# Altium integrated library ISSI SRAM Synchronous SRAM Automotive.IntLib: 614 symbols (part 25 of 71)
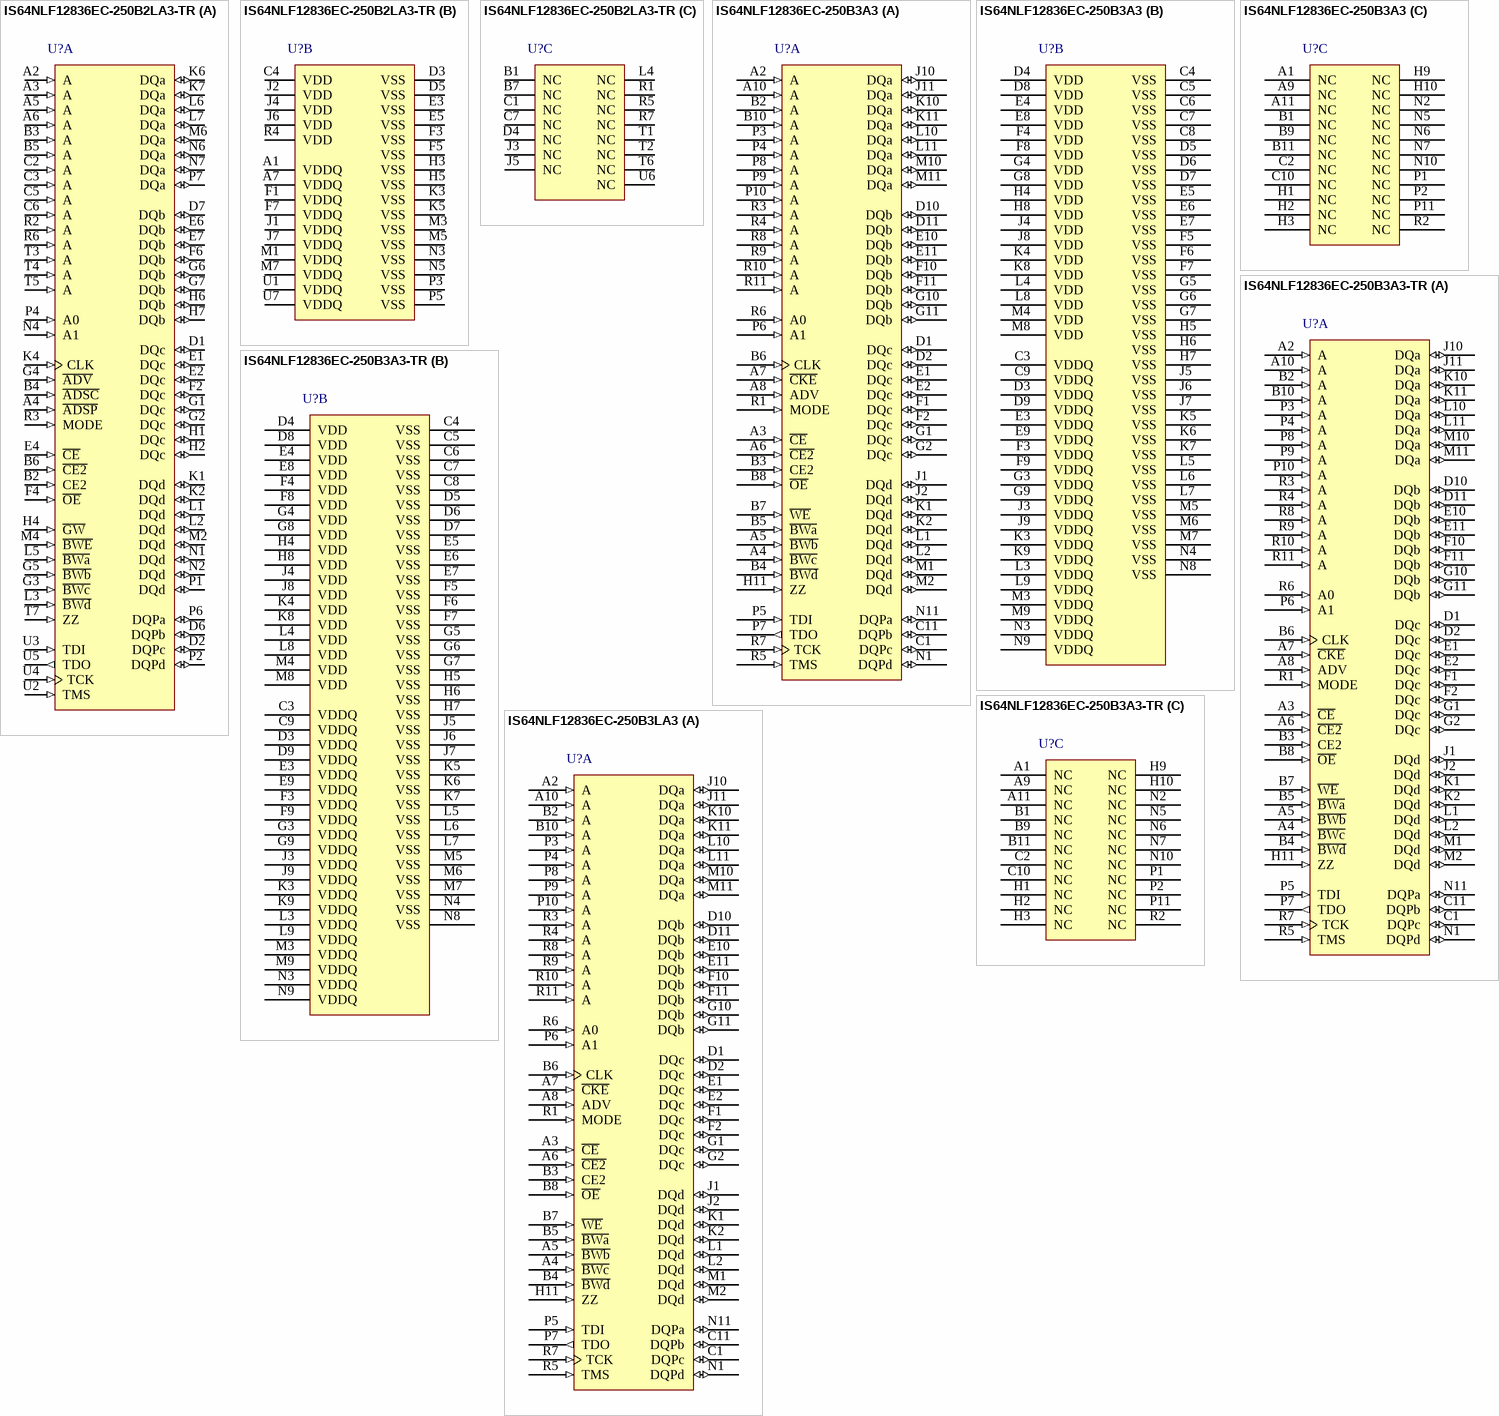
[diagram p145: symbols IS64NLF12836EC-250B2LA3-TR to IS64NLF12836EC-250B3LA3]

## IS64NLF12836EC-250B3A3
designator U?
4 M Flow Through 'No Wait' State Bus Synchronous SRAM with ECC, 128 K x 36, -40 to 125 degC, 165-Pin BGA (TF-BGA-165); Manufacturer: Integrated Silicon Solution Inc (ISSI); PartNumber: IS64NLF12836EC-250B3A3; Density: 4M; Packing: Tray / Tube; Vcc: 3.3 V; VccQ: 2.5 / 3.3 V; DatasheetVersion: Rev. A; PackageVersion: Rev. B, 08/2008; PackageReference: TF-BGA-165; PackageDescription: 165-Pin 13 x 15 mm TF-BGA, Pitch 1 mm; Organization: 128Kx36; Mounting Technology: Surface Mount; ComponentLink1Description: Manufacturer URL; ComponentLink1URL: http://www.issi.com/US/Index.shtml; ComponentLink2Description: Datasheet; ComponentLink2URL: http://www.issi.com/WW/pdf/61-64NLF_NVF12832EC-12836EC-25618EC.pdf; ComponentLink3Description: Package Specification; ComponentLink3URL: http://www.issi.com/WW/pdf/61NLP_NVP25636A_51218A.pdf
footprint ISSI-TF-BGA-165-13000X15000DE (BGA, 165-Balls, Body 15x13mm, Pitch 1mm)
part A pins: A2 A (in) "Synchronous Address Inputs", A3 ~{CE} (in) "Synchronous Chip Enable", A4 ~{BWc} (in) "Synchronous Byte Write Inputs", A5 ~{BWb} (in) "Synchronous Byte Write Inputs", A6 ~{CE2} (in) "Synchronous Chip Enable", A7 ~{CKE} (in) "Clock Enable", A8 ADV (in) "Synchronous Advance/Load", A10 A (in) "Synchronous Address Inputs", B2 A (in) "Synchronous Address Inputs", B3 CE2 (in) "Synchronous Chip Enable", B4 ~{BWd} (in) "Synchronous Byte Write Inputs", B5 ~{BWa} (in) "Synchronous Byte Write Inputs", B6 CLK (in) "Synchronous Clock", B7 ~{WE} (in) "Synchronous Read/Write Control Input", B8 ~{OE} (in) "Asynchronous Output Enable", B10 A (in) "Synchronous Address Inputs", C1 DQPc (io) "Synchronous Parity Data I/O", C11 DQPb (io) "Synchronous Parity Data I/O", D1 DQc (io) "Synchronous Data Inputs/Outputs", D2 DQc (io) "Synchronous Data Inputs/Outputs", D10 DQb (io) "Synchronous Data Inputs/Outputs", D11 DQb (io) "Synchronous Data Inputs/Outputs", E1 DQc (io) "Synchronous Data Inputs/Outputs", E2 DQc (io) "Synchronous Data Inputs/Outputs", E10 DQb (io) "Synchronous Data Inputs/Outputs", E11 DQb (io) "Synchronous Data Inputs/Outputs", F1 DQc (io) "Synchronous Data Inputs/Outputs", F2 DQc (io) "Synchronous Data Inputs/Outputs", F10 DQb (io) "Synchronous Data Inputs/Outputs", F11 DQb (io) "Synchronous Data Inputs/Outputs", G1 DQc (io) "Synchronous Data Inputs/Outputs", G2 DQc (io) "Synchronous Data Inputs/Outputs", G10 DQb (io) "Synchronous Data Inputs/Outputs", G11 DQb (io) "Synchronous Data Inputs/Outputs", H11 ZZ (in) "Asynchronous Power Sleep Mode", J1 DQd (io) "Synchronous Data Inputs/Outputs", J2 DQd (io) "Synchronous Data Inputs/Outputs", J10 DQa (io) "Synchronous Data Inputs/Outputs", J11 DQa (io) "Synchronous Data Inputs/Outputs", K1 DQd (io) "Synchronous Data Inputs/Outputs", K2 DQd (io) "Synchronous Data Inputs/Outputs", K10 DQa (io) "Synchronous Data Inputs/Outputs", K11 DQa (io) "Synchronous Data Inputs/Outputs", L1 DQd (io) "Synchronous Data Inputs/Outputs", L2 DQd (io) "Synchronous Data Inputs/Outputs", L10 DQa (io) "Synchronous Data Inputs/Outputs", L11 DQa (io) "Synchronous Data Inputs/Outputs", M1 DQd (io) "Synchronous Data Inputs/Outputs", M2 DQd (io) "Synchronous Data Inputs/Outputs", M10 DQa (io) "Synchronous Data Inputs/Outputs", M11 DQa (io) "Synchronous Data Inputs/Outputs", N1 DQPd (io) "Synchronous Parity Data I/O", N11 DQPa (io) "Synchronous Parity Data I/O", P3 A (in) "Synchronous Address Inputs", P4 A (in) "Synchronous Address Inputs", P5 TDI (in) "JTAG Pins", P6 A1 (in) "Synchronous Burst Address Inputs", P7 TDO (out) "JTAG Pins", P8 A (in) "Synchronous Address Inputs", P9 A (in) "Synchronous Address Inputs", P10 A (in) "Synchronous Address Inputs", R1 MODE (in) "Burst Sequence Selection", R3 A (in) "Synchronous Address Inputs", R4 A (in) "Synchronous Address Inputs", R5 TMS (in) "JTAG Pins", R6 A0 (in) "Synchronous Burst Address Inputs", R7 TCK (in) "JTAG Pins", R8 A (in) "Synchronous Address Inputs", R9 A (in) "Synchronous Address Inputs", R10 A (in) "Synchronous Address Inputs", R11 A (in) "Synchronous Address Inputs"
part B pins: C3 VDDQ (power) "I/O Power Supply", C4 VSS (power) "Ground", C5 VSS (power) "Ground", C6 VSS (power) "Ground", C7 VSS (power) "Ground", C8 VSS (power) "Ground", C9 VDDQ (power) "I/O Power Supply", D3 VDDQ (power) "I/O Power Supply", D4 VDD (power) "Power Supply", D5 VSS (power) "Ground", D6 VSS (power) "Ground", D7 VSS (power) "Ground", D8 VDD (power) "Power Supply", D9 VDDQ (power) "I/O Power Supply", E3 VDDQ (power) "I/O Power Supply", E4 VDD (power) "Power Supply", E5 VSS (power) "Ground", E6 VSS (power) "Ground", E7 VSS (power) "Ground", E8 VDD (power) "Power Supply", E9 VDDQ (power) "I/O Power Supply", F3 VDDQ (power) "I/O Power Supply", F4 VDD (power) "Power Supply", F5 VSS (power) "Ground", F6 VSS (power) "Ground", F7 VSS (power) "Ground", F8 VDD (power) "Power Supply", F9 VDDQ (power) "I/O Power Supply", G3 VDDQ (power) "I/O Power Supply", G4 VDD (power) "Power Supply", G5 VSS (power) "Ground", G6 VSS (power) "Ground", G7 VSS (power) "Ground", G8 VDD (power) "Power Supply", G9 VDDQ (power) "I/O Power Supply", H4 VDD (power) "Power Supply", H5 VSS (power) "Ground", H6 VSS (power) "Ground", H7 VSS (power) "Ground", H8 VDD (power) "Power Supply", J3 VDDQ (power) "I/O Power Supply", J4 VDD (power) "Power Supply", J5 VSS (power) "Ground", J6 VSS (power) "Ground", J7 VSS (power) "Ground", J8 VDD (power) "Power Supply", J9 VDDQ (power) "I/O Power Supply", K3 VDDQ (power) "I/O Power Supply", K4 VDD (power) "Power Supply", K5 VSS (power) "Ground", K6 VSS (power) "Ground", K7 VSS (power) "Ground", K8 VDD (power) "Power Supply", K9 VDDQ (power) "I/O Power Supply", L3 VDDQ (power) "I/O Power Supply", L4 VDD (power) "Power Supply", L5 VSS (power) "Ground", L6 VSS (power) "Ground", L7 VSS (power) "Ground", L8 VDD (power) "Power Supply", L9 VDDQ (power) "I/O Power Supply", M3 VDDQ (power) "I/O Power Supply", M4 VDD (power) "Power Supply", M5 VSS (power) "Ground", M6 VSS (power) "Ground", M7 VSS (power) "Ground", M8 VDD (power) "Power Supply", M9 VDDQ (power) "I/O Power Supply", N3 VDDQ (power) "I/O Power Supply", N4 VSS (power) "Ground", N8 VSS (power) "Ground", N9 VDDQ (power) "I/O Power Supply"
part C pins: A1 NC "No Connect", A9 NC "No Connect", A11 NC "No Connect", B1 NC "No Connect", B9 NC "No Connect", B11 NC "No Connect", C2 NC "No Connect", C10 NC "No Connect", H1 NC "No Connect", H2 NC "No Connect", H3 NC "No Connect", H9 NC "No Connect", H10 NC "No Connect", N2 NC "No Connect", N5 NC "No Connect", N6 NC "No Connect", N7 NC "No Connect", N10 NC "No Connect", P1 NC "No Connect", P2 NC "No Connect", P11 NC "No Connect", R2 NC "No Connect"

## IS64NLF12836EC-250B3A3-TR
designator U?
4 M Flow Through 'No Wait' State Bus Synchronous SRAM with ECC, 128 K x 36, -40 to 125 degC, 165-Pin BGA (TF-BGA-165); Manufacturer: Integrated Silicon Solution Inc (ISSI); PartNumber: IS64NLF12836EC-250B3A3-TR; Density: 4M; Packing: Tape & Reel; Vcc: 3.3 V; VccQ: 2.5 / 3.3 V; DatasheetVersion: Rev. A; PackageVersion: Rev. B, 08/2008; PackageReference: TF-BGA-165; PackageDescription: 165-Pin 13 x 15 mm TF-BGA, Pitch 1 mm; Organization: 128Kx36; Mounting Technology: Surface Mount; ComponentLink1Description: Manufacturer URL; ComponentLink1URL: http://www.issi.com/US/Index.shtml; ComponentLink2Description: Datasheet; ComponentLink2URL: http://www.issi.com/WW/pdf/61-64NLF_NVF12832EC-12836EC-25618EC.pdf; ComponentLink3Description: Package Specification; ComponentLink3URL: http://www.issi.com/WW/pdf/61NLP_NVP25636A_51218A.pdf
footprint ISSI-TF-BGA-165-13000X15000DE (BGA, 165-Balls, Body 15x13mm, Pitch 1mm)
part A pins: A2 A (in) "Synchronous Address Inputs", A3 ~{CE} (in) "Synchronous Chip Enable", A4 ~{BWc} (in) "Synchronous Byte Write Inputs", A5 ~{BWb} (in) "Synchronous Byte Write Inputs", A6 ~{CE2} (in) "Synchronous Chip Enable", A7 ~{CKE} (in) "Clock Enable", A8 ADV (in) "Synchronous Advance/Load", A10 A (in) "Synchronous Address Inputs", B2 A (in) "Synchronous Address Inputs", B3 CE2 (in) "Synchronous Chip Enable", B4 ~{BWd} (in) "Synchronous Byte Write Inputs", B5 ~{BWa} (in) "Synchronous Byte Write Inputs", B6 CLK (in) "Synchronous Clock", B7 ~{WE} (in) "Synchronous Read/Write Control Input", B8 ~{OE} (in) "Asynchronous Output Enable", B10 A (in) "Synchronous Address Inputs", C1 DQPc (io) "Synchronous Parity Data I/O", C11 DQPb (io) "Synchronous Parity Data I/O", D1 DQc (io) "Synchronous Data Inputs/Outputs", D2 DQc (io) "Synchronous Data Inputs/Outputs", D10 DQb (io) "Synchronous Data Inputs/Outputs", D11 DQb (io) "Synchronous Data Inputs/Outputs", E1 DQc (io) "Synchronous Data Inputs/Outputs", E2 DQc (io) "Synchronous Data Inputs/Outputs", E10 DQb (io) "Synchronous Data Inputs/Outputs", E11 DQb (io) "Synchronous Data Inputs/Outputs", F1 DQc (io) "Synchronous Data Inputs/Outputs", F2 DQc (io) "Synchronous Data Inputs/Outputs", F10 DQb (io) "Synchronous Data Inputs/Outputs", F11 DQb (io) "Synchronous Data Inputs/Outputs", G1 DQc (io) "Synchronous Data Inputs/Outputs", G2 DQc (io) "Synchronous Data Inputs/Outputs", G10 DQb (io) "Synchronous Data Inputs/Outputs", G11 DQb (io) "Synchronous Data Inputs/Outputs", H11 ZZ (in) "Asynchronous Power Sleep Mode", J1 DQd (io) "Synchronous Data Inputs/Outputs", J2 DQd (io) "Synchronous Data Inputs/Outputs", J10 DQa (io) "Synchronous Data Inputs/Outputs", J11 DQa (io) "Synchronous Data Inputs/Outputs", K1 DQd (io) "Synchronous Data Inputs/Outputs", K2 DQd (io) "Synchronous Data Inputs/Outputs", K10 DQa (io) "Synchronous Data Inputs/Outputs", K11 DQa (io) "Synchronous Data Inputs/Outputs", L1 DQd (io) "Synchronous Data Inputs/Outputs", L2 DQd (io) "Synchronous Data Inputs/Outputs", L10 DQa (io) "Synchronous Data Inputs/Outputs", L11 DQa (io) "Synchronous Data Inputs/Outputs", M1 DQd (io) "Synchronous Data Inputs/Outputs", M2 DQd (io) "Synchronous Data Inputs/Outputs", M10 DQa (io) "Synchronous Data Inputs/Outputs", M11 DQa (io) "Synchronous Data Inputs/Outputs", N1 DQPd (io) "Synchronous Parity Data I/O", N11 DQPa (io) "Synchronous Parity Data I/O", P3 A (in) "Synchronous Address Inputs", P4 A (in) "Synchronous Address Inputs", P5 TDI (in) "JTAG Pins", P6 A1 (in) "Synchronous Burst Address Inputs", P7 TDO (out) "JTAG Pins", P8 A (in) "Synchronous Address Inputs", P9 A (in) "Synchronous Address Inputs", P10 A (in) "Synchronous Address Inputs", R1 MODE (in) "Burst Sequence Selection", R3 A (in) "Synchronous Address Inputs", R4 A (in) "Synchronous Address Inputs", R5 TMS (in) "JTAG Pins", R6 A0 (in) "Synchronous Burst Address Inputs", R7 TCK (in) "JTAG Pins", R8 A (in) "Synchronous Address Inputs", R9 A (in) "Synchronous Address Inputs", R10 A (in) "Synchronous Address Inputs", R11 A (in) "Synchronous Address Inputs"
part B pins: C3 VDDQ (power) "I/O Power Supply", C4 VSS (power) "Ground", C5 VSS (power) "Ground", C6 VSS (power) "Ground", C7 VSS (power) "Ground", C8 VSS (power) "Ground", C9 VDDQ (power) "I/O Power Supply", D3 VDDQ (power) "I/O Power Supply", D4 VDD (power) "Power Supply", D5 VSS (power) "Ground", D6 VSS (power) "Ground", D7 VSS (power) "Ground", D8 VDD (power) "Power Supply", D9 VDDQ (power) "I/O Power Supply", E3 VDDQ (power) "I/O Power Supply", E4 VDD (power) "Power Supply", E5 VSS (power) "Ground", E6 VSS (power) "Ground", E7 VSS (power) "Ground", E8 VDD (power) "Power Supply", E9 VDDQ (power) "I/O Power Supply", F3 VDDQ (power) "I/O Power Supply", F4 VDD (power) "Power Supply", F5 VSS (power) "Ground", F6 VSS (power) "Ground", F7 VSS (power) "Ground", F8 VDD (power) "Power Supply", F9 VDDQ (power) "I/O Power Supply", G3 VDDQ (power) "I/O Power Supply", G4 VDD (power) "Power Supply", G5 VSS (power) "Ground", G6 VSS (power) "Ground", G7 VSS (power) "Ground", G8 VDD (power) "Power Supply", G9 VDDQ (power) "I/O Power Supply", H4 VDD (power) "Power Supply", H5 VSS (power) "Ground", H6 VSS (power) "Ground", H7 VSS (power) "Ground", H8 VDD (power) "Power Supply", J3 VDDQ (power) "I/O Power Supply", J4 VDD (power) "Power Supply", J5 VSS (power) "Ground", J6 VSS (power) "Ground", J7 VSS (power) "Ground", J8 VDD (power) "Power Supply", J9 VDDQ (power) "I/O Power Supply", K3 VDDQ (power) "I/O Power Supply", K4 VDD (power) "Power Supply", K5 VSS (power) "Ground", K6 VSS (power) "Ground", K7 VSS (power) "Ground", K8 VDD (power) "Power Supply", K9 VDDQ (power) "I/O Power Supply", L3 VDDQ (power) "I/O Power Supply", L4 VDD (power) "Power Supply", L5 VSS (power) "Ground", L6 VSS (power) "Ground", L7 VSS (power) "Ground", L8 VDD (power) "Power Supply", L9 VDDQ (power) "I/O Power Supply", M3 VDDQ (power) "I/O Power Supply", M4 VDD (power) "Power Supply", M5 VSS (power) "Ground", M6 VSS (power) "Ground", M7 VSS (power) "Ground", M8 VDD (power) "Power Supply", M9 VDDQ (power) "I/O Power Supply", N3 VDDQ (power) "I/O Power Supply", N4 VSS (power) "Ground", N8 VSS (power) "Ground", N9 VDDQ (power) "I/O Power Supply"
part C pins: A1 NC "No Connect", A9 NC "No Connect", A11 NC "No Connect", B1 NC "No Connect", B9 NC "No Connect", B11 NC "No Connect", C2 NC "No Connect", C10 NC "No Connect", H1 NC "No Connect", H2 NC "No Connect", H3 NC "No Connect", H9 NC "No Connect", H10 NC "No Connect", N2 NC "No Connect", N5 NC "No Connect", N6 NC "No Connect", N7 NC "No Connect", N10 NC "No Connect", P1 NC "No Connect", P2 NC "No Connect", P11 NC "No Connect", R2 NC "No Connect"

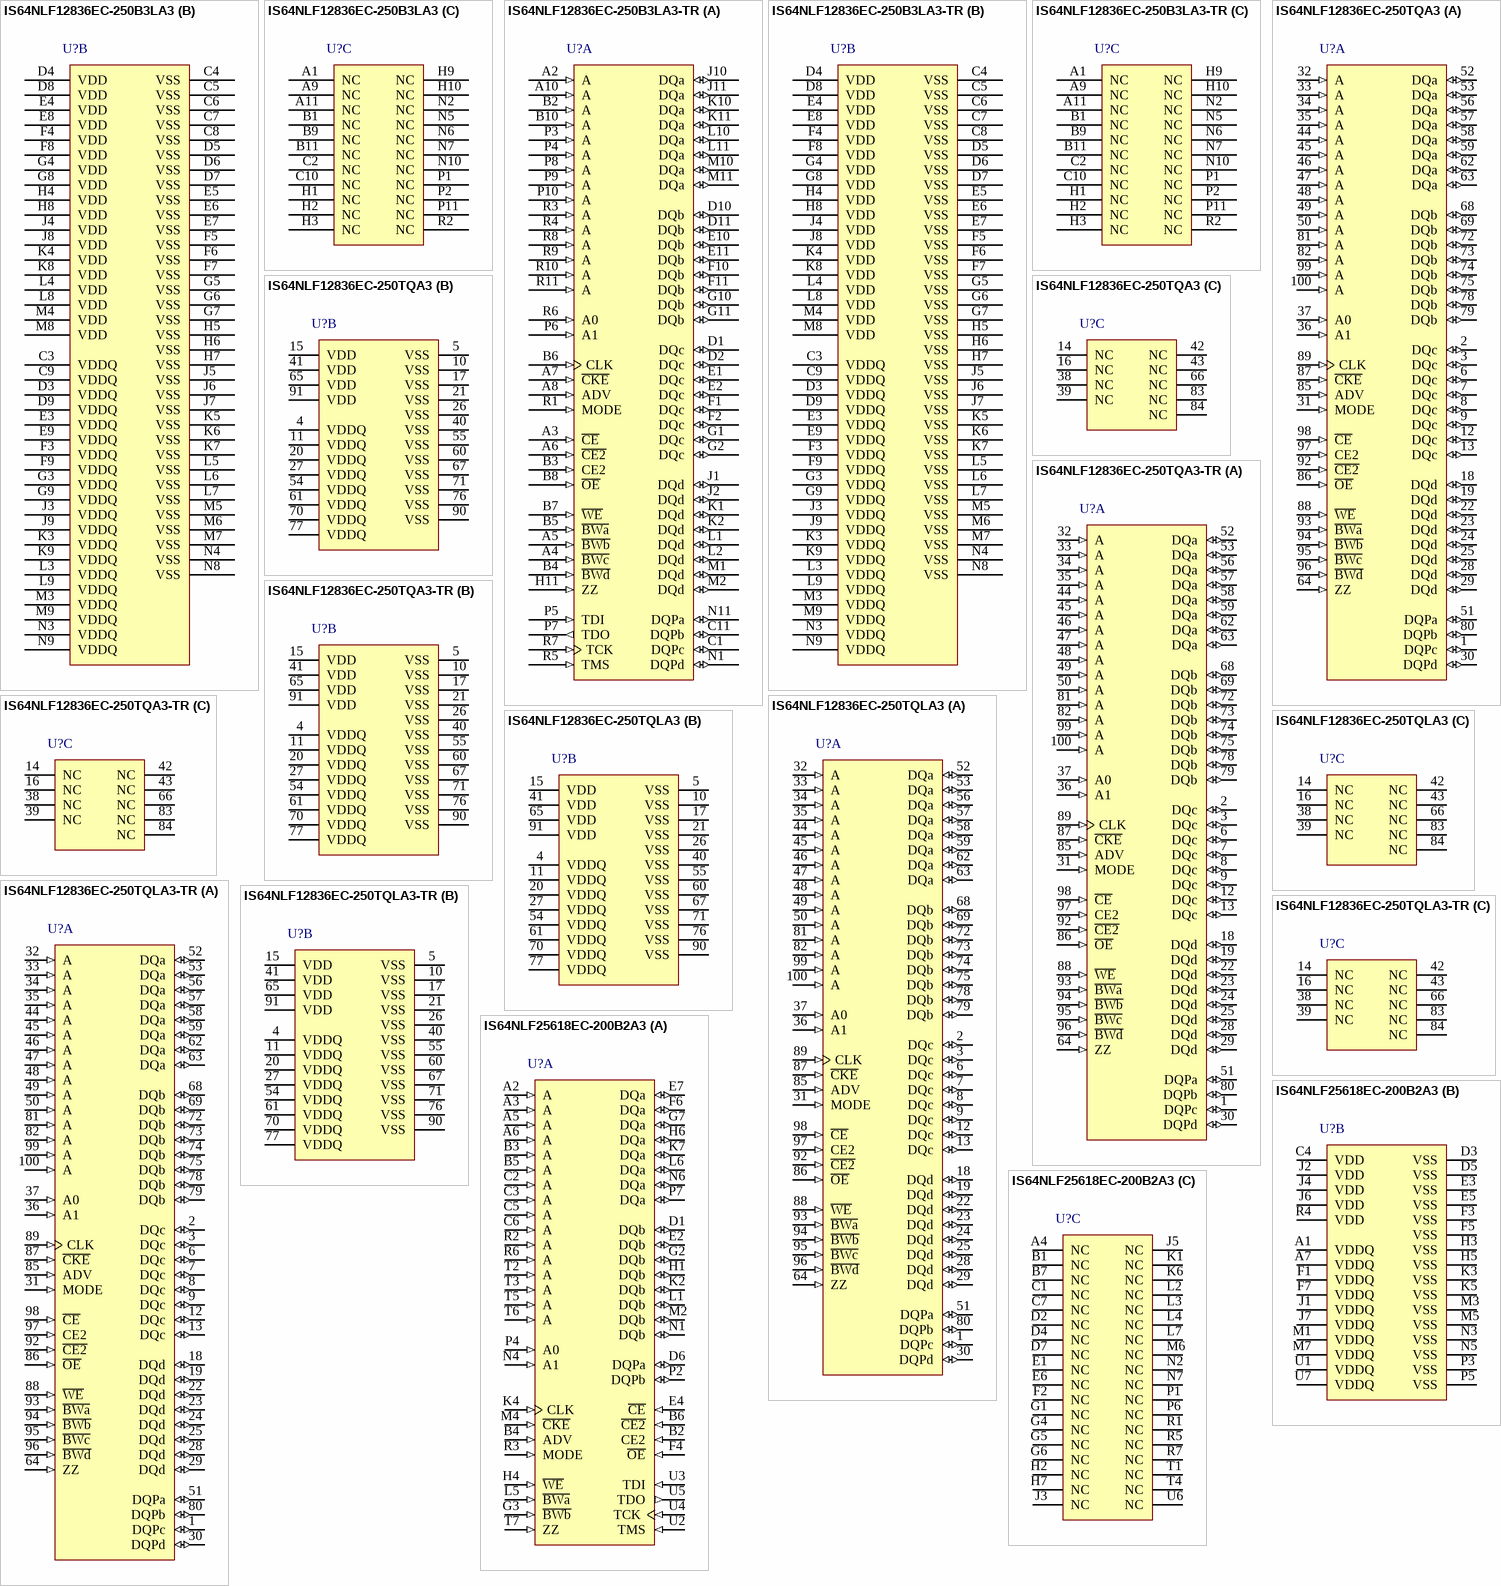
[diagram p42: symbols IS64NLF12836EC-250B3LA3 to IS64NLF25618EC-200B2A3]

## IS64NLF12836EC-250B3LA3
designator U?
4 M Flow Through 'No Wait' State Bus Synchronous SRAM with ECC, 128 K x 36, -40 to 125 degC, 165-Pin BGA (TF-BGA-165), Pb-Free; Manufacturer: Integrated Silicon Solution Inc (ISSI); PartNumber: IS64NLF12836EC-250B3LA3; Density: 4M; Packing: Tray / Tube; Vcc: 3.3 V; VccQ: 2.5 / 3.3 V; DatasheetVersion: Rev. A; PackageVersion: Rev. B, 08/2008; PackageReference: TF-BGA-165; PackageDescription: 165-Pin 13 x 15 mm TF-BGA, Pitch 1 mm; Organization: 128Kx36; RoHS: Pb-Free; Mounting Technology: Surface Mount; ComponentLink1Description: Manufacturer URL; ComponentLink1URL: http://www.issi.com/US/Index.shtml; ComponentLink2Description: Datasheet; ComponentLink2URL: http://www.issi.com/WW/pdf/61-64NLF_NVF12832EC-12836EC-25618EC.pdf; ComponentLink3Description: Package Specification; ComponentLink3URL: http://www.issi.com/WW/pdf/61NLP_NVP25636A_51218A.pdf
footprint ISSI-TF-BGA-165-13000X15000DE (BGA, 165-Balls, Body 15x13mm, Pitch 1mm)
part A pins: A2 A (in) "Synchronous Address Inputs", A3 ~{CE} (in) "Synchronous Chip Enable", A4 ~{BWc} (in) "Synchronous Byte Write Inputs", A5 ~{BWb} (in) "Synchronous Byte Write Inputs", A6 ~{CE2} (in) "Synchronous Chip Enable", A7 ~{CKE} (in) "Clock Enable", A8 ADV (in) "Synchronous Advance/Load", A10 A (in) "Synchronous Address Inputs", B2 A (in) "Synchronous Address Inputs", B3 CE2 (in) "Synchronous Chip Enable", B4 ~{BWd} (in) "Synchronous Byte Write Inputs", B5 ~{BWa} (in) "Synchronous Byte Write Inputs", B6 CLK (in) "Synchronous Clock", B7 ~{WE} (in) "Synchronous Read/Write Control Input", B8 ~{OE} (in) "Asynchronous Output Enable", B10 A (in) "Synchronous Address Inputs", C1 DQPc (io) "Synchronous Parity Data I/O", C11 DQPb (io) "Synchronous Parity Data I/O", D1 DQc (io) "Synchronous Data Inputs/Outputs", D2 DQc (io) "Synchronous Data Inputs/Outputs", D10 DQb (io) "Synchronous Data Inputs/Outputs", D11 DQb (io) "Synchronous Data Inputs/Outputs", E1 DQc (io) "Synchronous Data Inputs/Outputs", E2 DQc (io) "Synchronous Data Inputs/Outputs", E10 DQb (io) "Synchronous Data Inputs/Outputs", E11 DQb (io) "Synchronous Data Inputs/Outputs", F1 DQc (io) "Synchronous Data Inputs/Outputs", F2 DQc (io) "Synchronous Data Inputs/Outputs", F10 DQb (io) "Synchronous Data Inputs/Outputs", F11 DQb (io) "Synchronous Data Inputs/Outputs", G1 DQc (io) "Synchronous Data Inputs/Outputs", G2 DQc (io) "Synchronous Data Inputs/Outputs", G10 DQb (io) "Synchronous Data Inputs/Outputs", G11 DQb (io) "Synchronous Data Inputs/Outputs", H11 ZZ (in) "Asynchronous Power Sleep Mode", J1 DQd (io) "Synchronous Data Inputs/Outputs", J2 DQd (io) "Synchronous Data Inputs/Outputs", J10 DQa (io) "Synchronous Data Inputs/Outputs", J11 DQa (io) "Synchronous Data Inputs/Outputs", K1 DQd (io) "Synchronous Data Inputs/Outputs", K2 DQd (io) "Synchronous Data Inputs/Outputs", K10 DQa (io) "Synchronous Data Inputs/Outputs", K11 DQa (io) "Synchronous Data Inputs/Outputs", L1 DQd (io) "Synchronous Data Inputs/Outputs", L2 DQd (io) "Synchronous Data Inputs/Outputs", L10 DQa (io) "Synchronous Data Inputs/Outputs", L11 DQa (io) "Synchronous Data Inputs/Outputs", M1 DQd (io) "Synchronous Data Inputs/Outputs", M2 DQd (io) "Synchronous Data Inputs/Outputs", M10 DQa (io) "Synchronous Data Inputs/Outputs", M11 DQa (io) "Synchronous Data Inputs/Outputs", N1 DQPd (io) "Synchronous Parity Data I/O", N11 DQPa (io) "Synchronous Parity Data I/O", P3 A (in) "Synchronous Address Inputs", P4 A (in) "Synchronous Address Inputs", P5 TDI (in) "JTAG Pins", P6 A1 (in) "Synchronous Burst Address Inputs", P7 TDO (out) "JTAG Pins", P8 A (in) "Synchronous Address Inputs", P9 A (in) "Synchronous Address Inputs", P10 A (in) "Synchronous Address Inputs", R1 MODE (in) "Burst Sequence Selection", R3 A (in) "Synchronous Address Inputs", R4 A (in) "Synchronous Address Inputs", R5 TMS (in) "JTAG Pins", R6 A0 (in) "Synchronous Burst Address Inputs", R7 TCK (in) "JTAG Pins", R8 A (in) "Synchronous Address Inputs", R9 A (in) "Synchronous Address Inputs", R10 A (in) "Synchronous Address Inputs", R11 A (in) "Synchronous Address Inputs"
part B pins: C3 VDDQ (power) "I/O Power Supply", C4 VSS (power) "Ground", C5 VSS (power) "Ground", C6 VSS (power) "Ground", C7 VSS (power) "Ground", C8 VSS (power) "Ground", C9 VDDQ (power) "I/O Power Supply", D3 VDDQ (power) "I/O Power Supply", D4 VDD (power) "Power Supply", D5 VSS (power) "Ground", D6 VSS (power) "Ground", D7 VSS (power) "Ground", D8 VDD (power) "Power Supply", D9 VDDQ (power) "I/O Power Supply", E3 VDDQ (power) "I/O Power Supply", E4 VDD (power) "Power Supply", E5 VSS (power) "Ground", E6 VSS (power) "Ground", E7 VSS (power) "Ground", E8 VDD (power) "Power Supply", E9 VDDQ (power) "I/O Power Supply", F3 VDDQ (power) "I/O Power Supply", F4 VDD (power) "Power Supply", F5 VSS (power) "Ground", F6 VSS (power) "Ground", F7 VSS (power) "Ground", F8 VDD (power) "Power Supply", F9 VDDQ (power) "I/O Power Supply", G3 VDDQ (power) "I/O Power Supply", G4 VDD (power) "Power Supply", G5 VSS (power) "Ground", G6 VSS (power) "Ground", G7 VSS (power) "Ground", G8 VDD (power) "Power Supply", G9 VDDQ (power) "I/O Power Supply", H4 VDD (power) "Power Supply", H5 VSS (power) "Ground", H6 VSS (power) "Ground", H7 VSS (power) "Ground", H8 VDD (power) "Power Supply", J3 VDDQ (power) "I/O Power Supply", J4 VDD (power) "Power Supply", J5 VSS (power) "Ground", J6 VSS (power) "Ground", J7 VSS (power) "Ground", J8 VDD (power) "Power Supply", J9 VDDQ (power) "I/O Power Supply", K3 VDDQ (power) "I/O Power Supply", K4 VDD (power) "Power Supply", K5 VSS (power) "Ground", K6 VSS (power) "Ground", K7 VSS (power) "Ground", K8 VDD (power) "Power Supply", K9 VDDQ (power) "I/O Power Supply", L3 VDDQ (power) "I/O Power Supply", L4 VDD (power) "Power Supply", L5 VSS (power) "Ground", L6 VSS (power) "Ground", L7 VSS (power) "Ground", L8 VDD (power) "Power Supply", L9 VDDQ (power) "I/O Power Supply", M3 VDDQ (power) "I/O Power Supply", M4 VDD (power) "Power Supply", M5 VSS (power) "Ground", M6 VSS (power) "Ground", M7 VSS (power) "Ground", M8 VDD (power) "Power Supply", M9 VDDQ (power) "I/O Power Supply", N3 VDDQ (power) "I/O Power Supply", N4 VSS (power) "Ground", N8 VSS (power) "Ground", N9 VDDQ (power) "I/O Power Supply"
part C pins: A1 NC "No Connect", A9 NC "No Connect", A11 NC "No Connect", B1 NC "No Connect", B9 NC "No Connect", B11 NC "No Connect", C2 NC "No Connect", C10 NC "No Connect", H1 NC "No Connect", H2 NC "No Connect", H3 NC "No Connect", H9 NC "No Connect", H10 NC "No Connect", N2 NC "No Connect", N5 NC "No Connect", N6 NC "No Connect", N7 NC "No Connect", N10 NC "No Connect", P1 NC "No Connect", P2 NC "No Connect", P11 NC "No Connect", R2 NC "No Connect"

## IS64NLF12836EC-250B3LA3-TR
designator U?
4 M Flow Through 'No Wait' State Bus Synchronous SRAM with ECC, 128 K x 36, -40 to 125 degC, 165-Pin BGA (TF-BGA-165), Pb-Free; Manufacturer: Integrated Silicon Solution Inc (ISSI); PartNumber: IS64NLF12836EC-250B3LA3-TR; Density: 4M; Packing: Tape & Reel; Vcc: 3.3 V; VccQ: 2.5 / 3.3 V; DatasheetVersion: Rev. A; PackageVersion: Rev. B, 08/2008; PackageReference: TF-BGA-165; PackageDescription: 165-Pin 13 x 15 mm TF-BGA, Pitch 1 mm; Organization: 128Kx36; RoHS: Pb-Free; Mounting Technology: Surface Mount; ComponentLink1Description: Manufacturer URL; ComponentLink1URL: http://www.issi.com/US/Index.shtml; ComponentLink2Description: Datasheet; ComponentLink2URL: http://www.issi.com/WW/pdf/61-64NLF_NVF12832EC-12836EC-25618EC.pdf; ComponentLink3Description: Package Specification; ComponentLink3URL: http://www.issi.com/WW/pdf/61NLP_NVP25636A_51218A.pdf
footprint ISSI-TF-BGA-165-13000X15000DE (BGA, 165-Balls, Body 15x13mm, Pitch 1mm)
part A pins: A2 A (in) "Synchronous Address Inputs", A3 ~{CE} (in) "Synchronous Chip Enable", A4 ~{BWc} (in) "Synchronous Byte Write Inputs", A5 ~{BWb} (in) "Synchronous Byte Write Inputs", A6 ~{CE2} (in) "Synchronous Chip Enable", A7 ~{CKE} (in) "Clock Enable", A8 ADV (in) "Synchronous Advance/Load", A10 A (in) "Synchronous Address Inputs", B2 A (in) "Synchronous Address Inputs", B3 CE2 (in) "Synchronous Chip Enable", B4 ~{BWd} (in) "Synchronous Byte Write Inputs", B5 ~{BWa} (in) "Synchronous Byte Write Inputs", B6 CLK (in) "Synchronous Clock", B7 ~{WE} (in) "Synchronous Read/Write Control Input", B8 ~{OE} (in) "Asynchronous Output Enable", B10 A (in) "Synchronous Address Inputs", C1 DQPc (io) "Synchronous Parity Data I/O", C11 DQPb (io) "Synchronous Parity Data I/O", D1 DQc (io) "Synchronous Data Inputs/Outputs", D2 DQc (io) "Synchronous Data Inputs/Outputs", D10 DQb (io) "Synchronous Data Inputs/Outputs", D11 DQb (io) "Synchronous Data Inputs/Outputs", E1 DQc (io) "Synchronous Data Inputs/Outputs", E2 DQc (io) "Synchronous Data Inputs/Outputs", E10 DQb (io) "Synchronous Data Inputs/Outputs", E11 DQb (io) "Synchronous Data Inputs/Outputs", F1 DQc (io) "Synchronous Data Inputs/Outputs", F2 DQc (io) "Synchronous Data Inputs/Outputs", F10 DQb (io) "Synchronous Data Inputs/Outputs", F11 DQb (io) "Synchronous Data Inputs/Outputs", G1 DQc (io) "Synchronous Data Inputs/Outputs", G2 DQc (io) "Synchronous Data Inputs/Outputs", G10 DQb (io) "Synchronous Data Inputs/Outputs", G11 DQb (io) "Synchronous Data Inputs/Outputs", H11 ZZ (in) "Asynchronous Power Sleep Mode", J1 DQd (io) "Synchronous Data Inputs/Outputs", J2 DQd (io) "Synchronous Data Inputs/Outputs", J10 DQa (io) "Synchronous Data Inputs/Outputs", J11 DQa (io) "Synchronous Data Inputs/Outputs", K1 DQd (io) "Synchronous Data Inputs/Outputs", K2 DQd (io) "Synchronous Data Inputs/Outputs", K10 DQa (io) "Synchronous Data Inputs/Outputs", K11 DQa (io) "Synchronous Data Inputs/Outputs", L1 DQd (io) "Synchronous Data Inputs/Outputs", L2 DQd (io) "Synchronous Data Inputs/Outputs", L10 DQa (io) "Synchronous Data Inputs/Outputs", L11 DQa (io) "Synchronous Data Inputs/Outputs", M1 DQd (io) "Synchronous Data Inputs/Outputs", M2 DQd (io) "Synchronous Data Inputs/Outputs", M10 DQa (io) "Synchronous Data Inputs/Outputs", M11 DQa (io) "Synchronous Data Inputs/Outputs", N1 DQPd (io) "Synchronous Parity Data I/O", N11 DQPa (io) "Synchronous Parity Data I/O", P3 A (in) "Synchronous Address Inputs", P4 A (in) "Synchronous Address Inputs", P5 TDI (in) "JTAG Pins", P6 A1 (in) "Synchronous Burst Address Inputs", P7 TDO (out) "JTAG Pins", P8 A (in) "Synchronous Address Inputs", P9 A (in) "Synchronous Address Inputs", P10 A (in) "Synchronous Address Inputs", R1 MODE (in) "Burst Sequence Selection", R3 A (in) "Synchronous Address Inputs", R4 A (in) "Synchronous Address Inputs", R5 TMS (in) "JTAG Pins", R6 A0 (in) "Synchronous Burst Address Inputs", R7 TCK (in) "JTAG Pins", R8 A (in) "Synchronous Address Inputs", R9 A (in) "Synchronous Address Inputs", R10 A (in) "Synchronous Address Inputs", R11 A (in) "Synchronous Address Inputs"
part B pins: C3 VDDQ (power) "I/O Power Supply", C4 VSS (power) "Ground", C5 VSS (power) "Ground", C6 VSS (power) "Ground", C7 VSS (power) "Ground", C8 VSS (power) "Ground", C9 VDDQ (power) "I/O Power Supply", D3 VDDQ (power) "I/O Power Supply", D4 VDD (power) "Power Supply", D5 VSS (power) "Ground", D6 VSS (power) "Ground", D7 VSS (power) "Ground", D8 VDD (power) "Power Supply", D9 VDDQ (power) "I/O Power Supply", E3 VDDQ (power) "I/O Power Supply", E4 VDD (power) "Power Supply", E5 VSS (power) "Ground", E6 VSS (power) "Ground", E7 VSS (power) "Ground", E8 VDD (power) "Power Supply", E9 VDDQ (power) "I/O Power Supply", F3 VDDQ (power) "I/O Power Supply", F4 VDD (power) "Power Supply", F5 VSS (power) "Ground", F6 VSS (power) "Ground", F7 VSS (power) "Ground", F8 VDD (power) "Power Supply", F9 VDDQ (power) "I/O Power Supply", G3 VDDQ (power) "I/O Power Supply", G4 VDD (power) "Power Supply", G5 VSS (power) "Ground", G6 VSS (power) "Ground", G7 VSS (power) "Ground", G8 VDD (power) "Power Supply", G9 VDDQ (power) "I/O Power Supply", H4 VDD (power) "Power Supply", H5 VSS (power) "Ground", H6 VSS (power) "Ground", H7 VSS (power) "Ground", H8 VDD (power) "Power Supply", J3 VDDQ (power) "I/O Power Supply", J4 VDD (power) "Power Supply", J5 VSS (power) "Ground", J6 VSS (power) "Ground", J7 VSS (power) "Ground", J8 VDD (power) "Power Supply", J9 VDDQ (power) "I/O Power Supply", K3 VDDQ (power) "I/O Power Supply", K4 VDD (power) "Power Supply", K5 VSS (power) "Ground", K6 VSS (power) "Ground", K7 VSS (power) "Ground", K8 VDD (power) "Power Supply", K9 VDDQ (power) "I/O Power Supply", L3 VDDQ (power) "I/O Power Supply", L4 VDD (power) "Power Supply", L5 VSS (power) "Ground", L6 VSS (power) "Ground", L7 VSS (power) "Ground", L8 VDD (power) "Power Supply", L9 VDDQ (power) "I/O Power Supply", M3 VDDQ (power) "I/O Power Supply", M4 VDD (power) "Power Supply", M5 VSS (power) "Ground", M6 VSS (power) "Ground", M7 VSS (power) "Ground", M8 VDD (power) "Power Supply", M9 VDDQ (power) "I/O Power Supply", N3 VDDQ (power) "I/O Power Supply", N4 VSS (power) "Ground", N8 VSS (power) "Ground", N9 VDDQ (power) "I/O Power Supply"
part C pins: A1 NC "No Connect", A9 NC "No Connect", A11 NC "No Connect", B1 NC "No Connect", B9 NC "No Connect", B11 NC "No Connect", C2 NC "No Connect", C10 NC "No Connect", H1 NC "No Connect", H2 NC "No Connect", H3 NC "No Connect", H9 NC "No Connect", H10 NC "No Connect", N2 NC "No Connect", N5 NC "No Connect", N6 NC "No Connect", N7 NC "No Connect", N10 NC "No Connect", P1 NC "No Connect", P2 NC "No Connect", P11 NC "No Connect", R2 NC "No Connect"

## IS64NLF12836EC-250TQA3
designator U?
4 M Flow Through 'No Wait' State Bus Synchronous SRAM with ECC, 128 K x 36, -40 to 125 degC, 100-Pin QFP (TQFP-100); Manufacturer: Integrated Silicon Solution Inc (ISSI); PartNumber: IS64NLF12836EC-250TQA3; Density: 4M; Packing: Tray / Tube; Vcc: 3.3 V; VccQ: 2.5 / 3.3 V; DatasheetVersion: Rev. A; PackageVersion: Rev. F, 09/2009; PackageReference: TQFP-100; PackageDescription: 100-Pin 20 x 14 mm LQFP, Pitch 0.65 mm; Organization: 128Kx36; Mounting Technology: Surface Mount; ComponentLink1Description: Manufacturer URL; ComponentLink1URL: http://www.issi.com/US/Index.shtml; ComponentLink2Description: Datasheet; ComponentLink2URL: http://www.issi.com/WW/pdf/61-64NLF_NVF12832EC-12836EC-25618EC.pdf; ComponentLink3Description: Package Specification; ComponentLink3URL: http://www.issi.com/WW/pdf/61VPS_LPS25636A_51218A.pdf
footprint ISSI-TQFP-100-20000X14000DE_N (QFP, 100-Leads, Body 20x14mm, Pitch 0.65mm, IPC Medium Density)
part A pins: 1 DQPc (io) "Parity Data I/O", 2 DQc (io) "Synchronous Data Input/Output", 3 DQc (io) "Synchronous Data Input/Output", 6 DQc (io) "Synchronous Data Input/Output", 7 DQc (io) "Synchronous Data Input/Output", 8 DQc (io) "Synchronous Data Input/Output", 9 DQc (io) "Synchronous Data Input/Output", 12 DQc (io) "Synchronous Data Input/Output", 13 DQc (io) "Synchronous Data Input/Output", 18 DQd (io) "Synchronous Data Input/Output", 19 DQd (io) "Synchronous Data Input/Output", 22 DQd (io) "Synchronous Data Input/Output", 23 DQd (io) "Synchronous Data Input/Output", 24 DQd (io) "Synchronous Data Input/Output", 25 DQd (io) "Synchronous Data Input/Output", 28 DQd (io) "Synchronous Data Input/Output", 29 DQd (io) "Synchronous Data Input/Output", 30 DQPd (io) "Parity Data I/O", 31 MODE (in) "Burst Sequence Selection", 32 A (in) "Synchronous Address Input", 33 A (in) "Synchronous Address Input", 34 A (in) "Synchronous Address Input", 35 A (in) "Synchronous Address Input", 36 A1 (in) "Synchronous Burst Address Input.This pin must tied to the two LSBs of the address bus.", 37 A0 (in) "Synchronous Burst Address Input.This pin must tied to the two LSBs of the address bus.", 44 A (in) "Synchronous Address Input", 45 A (in) "Synchronous Address Input", 46 A (in) "Synchronous Address Input", 47 A (in) "Synchronous Address Input", 48 A (in) "Synchronous Address Input", 49 A (in) "Synchronous Address Input", 50 A (in) "Synchronous Address Input", 51 DQPa (io) "Parity Data I/O", 52 DQa (io) "Synchronous Data Input/Output", 53 DQa (io) "Synchronous Data Input/Output", 56 DQa (io) "Synchronous Data Input/Output", 57 DQa (io) "Synchronous Data Input/Output", 58 DQa (io) "Synchronous Data Input/Output", 59 DQa (io) "Synchronous Data Input/Output", 62 DQa (io) "Synchronous Data Input/Output", 63 DQa (io) "Synchronous Data Input/Output", 64 ZZ (in) "Snooze Enable", 68 DQb (io) "Synchronous Data Input/Output", 69 DQb (io) "Synchronous Data Input/Output", 72 DQb (io) "Synchronous Data Input/Output", 73 DQb (io) "Synchronous Data Input/Output", 74 DQb (io) "Synchronous Data Input/Output", 75 DQb (io) "Synchronous Data Input/Output", 78 DQb (io) "Synchronous Data Input/Output", 79 DQb (io) "Synchronous Data Input/Output", 80 DQPb (io) "Parity Data I/O", 81 A (in) "Synchronous Address Input", 82 A (in) "Synchronous Address Input", 85 ADV (in) "Synchronous Burst Address Advance", 86 ~{OE} (in) "Output Enable", 87 ~{CKE} (in) "Clock Enable", 88 ~{WE} (in) "Write Enable", 89 CLK (in) "Synchronous Clock", 92 ~{CE2} (in) "Synchronous Chip Enable", 93 ~{BWa} (in) "Synchronous Byte Write Enable", 94 ~{BWb} (in) "Synchronous Byte Write Enable", 95 ~{BWc} (in) "Synchronous Byte Write Enable", 96 ~{BWd} (in) "Synchronous Byte Write Enable", 97 CE2 (in) "Synchronous Chip Enable", 98 ~{CE} (in) "Synchronous Chip Enable", 99 A (in) "Synchronous Address Input", 100 A (in) "Synchronous Address Input"
part B pins: 4 VDDQ (power) "Isolated Output Buffer Supply: +3.3V/2.5V", 5 VSS (power) "Ground", 10 VSS (power) "Ground", 11 VDDQ (power) "Isolated Output Buffer Supply: +3.3V/2.5V", 15 VDD (power) "+3.3V/2.5V Power Supply", 17 VSS (power) "Ground", 20 VDDQ (power) "Isolated Output Buffer Supply: +3.3V/2.5V", 21 VSS (power) "Ground", 26 VSS (power) "Ground", 27 VDDQ (power) "Isolated Output Buffer Supply: +3.3V/2.5V", 40 VSS (power) "Ground", 41 VDD (power) "+3.3V/2.5V Power Supply", 54 VDDQ (power) "Isolated Output Buffer Supply: +3.3V/2.5V", 55 VSS (power) "Ground", 60 VSS (power) "Ground", 61 VDDQ (power) "Isolated Output Buffer Supply: +3.3V/2.5V", 65 VDD (power) "+3.3V/2.5V Power Supply", 67 VSS (power) "Ground", 70 VDDQ (power) "Isolated Output Buffer Supply: +3.3V/2.5V", 71 VSS (power) "Ground", 76 VSS (power) "Ground", 77 VDDQ (power) "Isolated Output Buffer Supply: +3.3V/2.5V", 90 VSS (power) "Ground", 91 VDD (power) "+3.3V/2.5V Power Supply"
part C pins: 14 NC "Not Connected", 16 NC "Not Connected", 38 NC "Not Connected", 39 NC "Not Connected", 42 NC "Not Connected", 43 NC "Not Connected", 66 NC "Not Connected", 83 NC "Not Connected", 84 NC "Not Connected"

## IS64NLF12836EC-250TQA3-TR
designator U?
4 M Flow Through 'No Wait' State Bus Synchronous SRAM with ECC, 128 K x 36, -40 to 125 degC, 100-Pin QFP (TQFP-100); Manufacturer: Integrated Silicon Solution Inc (ISSI); PartNumber: IS64NLF12836EC-250TQA3-TR; Density: 4M; Packing: Tape & Reel; Vcc: 3.3 V; VccQ: 2.5 / 3.3 V; DatasheetVersion: Rev. A; PackageVersion: Rev. F, 09/2009; PackageReference: TQFP-100; PackageDescription: 100-Pin 20 x 14 mm LQFP, Pitch 0.65 mm; Organization: 128Kx36; Mounting Technology: Surface Mount; ComponentLink1Description: Manufacturer URL; ComponentLink1URL: http://www.issi.com/US/Index.shtml; ComponentLink2Description: Datasheet; ComponentLink2URL: http://www.issi.com/WW/pdf/61-64NLF_NVF12832EC-12836EC-25618EC.pdf; ComponentLink3Description: Package Specification; ComponentLink3URL: http://www.issi.com/WW/pdf/61VPS_LPS25636A_51218A.pdf
footprint ISSI-TQFP-100-20000X14000DE_N (QFP, 100-Leads, Body 20x14mm, Pitch 0.65mm, IPC Medium Density)
part A pins: 1 DQPc (io) "Parity Data I/O", 2 DQc (io) "Synchronous Data Input/Output", 3 DQc (io) "Synchronous Data Input/Output", 6 DQc (io) "Synchronous Data Input/Output", 7 DQc (io) "Synchronous Data Input/Output", 8 DQc (io) "Synchronous Data Input/Output", 9 DQc (io) "Synchronous Data Input/Output", 12 DQc (io) "Synchronous Data Input/Output", 13 DQc (io) "Synchronous Data Input/Output", 18 DQd (io) "Synchronous Data Input/Output", 19 DQd (io) "Synchronous Data Input/Output", 22 DQd (io) "Synchronous Data Input/Output", 23 DQd (io) "Synchronous Data Input/Output", 24 DQd (io) "Synchronous Data Input/Output", 25 DQd (io) "Synchronous Data Input/Output", 28 DQd (io) "Synchronous Data Input/Output", 29 DQd (io) "Synchronous Data Input/Output", 30 DQPd (io) "Parity Data I/O", 31 MODE (in) "Burst Sequence Selection", 32 A (in) "Synchronous Address Input", 33 A (in) "Synchronous Address Input", 34 A (in) "Synchronous Address Input", 35 A (in) "Synchronous Address Input", 36 A1 (in) "Synchronous Burst Address Input.This pin must tied to the two LSBs of the address bus.", 37 A0 (in) "Synchronous Burst Address Input.This pin must tied to the two LSBs of the address bus.", 44 A (in) "Synchronous Address Input", 45 A (in) "Synchronous Address Input", 46 A (in) "Synchronous Address Input", 47 A (in) "Synchronous Address Input", 48 A (in) "Synchronous Address Input", 49 A (in) "Synchronous Address Input", 50 A (in) "Synchronous Address Input", 51 DQPa (io) "Parity Data I/O", 52 DQa (io) "Synchronous Data Input/Output", 53 DQa (io) "Synchronous Data Input/Output", 56 DQa (io) "Synchronous Data Input/Output", 57 DQa (io) "Synchronous Data Input/Output", 58 DQa (io) "Synchronous Data Input/Output", 59 DQa (io) "Synchronous Data Input/Output", 62 DQa (io) "Synchronous Data Input/Output", 63 DQa (io) "Synchronous Data Input/Output", 64 ZZ (in) "Snooze Enable", 68 DQb (io) "Synchronous Data Input/Output", 69 DQb (io) "Synchronous Data Input/Output", 72 DQb (io) "Synchronous Data Input/Output", 73 DQb (io) "Synchronous Data Input/Output", 74 DQb (io) "Synchronous Data Input/Output", 75 DQb (io) "Synchronous Data Input/Output", 78 DQb (io) "Synchronous Data Input/Output", 79 DQb (io) "Synchronous Data Input/Output", 80 DQPb (io) "Parity Data I/O", 81 A (in) "Synchronous Address Input", 82 A (in) "Synchronous Address Input", 85 ADV (in) "Synchronous Burst Address Advance", 86 ~{OE} (in) "Output Enable", 87 ~{CKE} (in) "Clock Enable", 88 ~{WE} (in) "Write Enable", 89 CLK (in) "Synchronous Clock", 92 ~{CE2} (in) "Synchronous Chip Enable", 93 ~{BWa} (in) "Synchronous Byte Write Enable", 94 ~{BWb} (in) "Synchronous Byte Write Enable", 95 ~{BWc} (in) "Synchronous Byte Write Enable", 96 ~{BWd} (in) "Synchronous Byte Write Enable", 97 CE2 (in) "Synchronous Chip Enable", 98 ~{CE} (in) "Synchronous Chip Enable", 99 A (in) "Synchronous Address Input", 100 A (in) "Synchronous Address Input"
part B pins: 4 VDDQ (power) "Isolated Output Buffer Supply: +3.3V/2.5V", 5 VSS (power) "Ground", 10 VSS (power) "Ground", 11 VDDQ (power) "Isolated Output Buffer Supply: +3.3V/2.5V", 15 VDD (power) "+3.3V/2.5V Power Supply", 17 VSS (power) "Ground", 20 VDDQ (power) "Isolated Output Buffer Supply: +3.3V/2.5V", 21 VSS (power) "Ground", 26 VSS (power) "Ground", 27 VDDQ (power) "Isolated Output Buffer Supply: +3.3V/2.5V", 40 VSS (power) "Ground", 41 VDD (power) "+3.3V/2.5V Power Supply", 54 VDDQ (power) "Isolated Output Buffer Supply: +3.3V/2.5V", 55 VSS (power) "Ground", 60 VSS (power) "Ground", 61 VDDQ (power) "Isolated Output Buffer Supply: +3.3V/2.5V", 65 VDD (power) "+3.3V/2.5V Power Supply", 67 VSS (power) "Ground", 70 VDDQ (power) "Isolated Output Buffer Supply: +3.3V/2.5V", 71 VSS (power) "Ground", 76 VSS (power) "Ground", 77 VDDQ (power) "Isolated Output Buffer Supply: +3.3V/2.5V", 90 VSS (power) "Ground", 91 VDD (power) "+3.3V/2.5V Power Supply"
part C pins: 14 NC "Not Connected", 16 NC "Not Connected", 38 NC "Not Connected", 39 NC "Not Connected", 42 NC "Not Connected", 43 NC "Not Connected", 66 NC "Not Connected", 83 NC "Not Connected", 84 NC "Not Connected"

## IS64NLF12836EC-250TQLA3
designator U?
4 M Flow Through 'No Wait' State Bus Synchronous SRAM with ECC, 128 K x 36, -40 to 125 degC, 100-Pin QFP (TQFP-100), Pb-Free; Manufacturer: Integrated Silicon Solution Inc (ISSI); PartNumber: IS64NLF12836EC-250TQLA3; Density: 4M; Packing: Tray / Tube; Vcc: 3.3 V; VccQ: 2.5 / 3.3 V; DatasheetVersion: Rev. A; PackageVersion: Rev. F, 09/2009; PackageReference: TQFP-100; PackageDescription: 100-Pin 20 x 14 mm LQFP, Pitch 0.65 mm; Organization: 128Kx36; RoHS: Pb-Free; Mounting Technology: Surface Mount; ComponentLink1Description: Manufacturer URL; ComponentLink1URL: http://www.issi.com/US/Index.shtml; ComponentLink2Description: Datasheet; ComponentLink2URL: http://www.issi.com/WW/pdf/61-64NLF_NVF12832EC-12836EC-25618EC.pdf; ComponentLink3Description: Package Specification; ComponentLink3URL: http://www.issi.com/WW/pdf/61VPS_LPS25636A_51218A.pdf
footprint ISSI-TQFP-100-20000X14000DE_N (QFP, 100-Leads, Body 20x14mm, Pitch 0.65mm, IPC Medium Density)
part A pins: 1 DQPc (io) "Parity Data I/O", 2 DQc (io) "Synchronous Data Input/Output", 3 DQc (io) "Synchronous Data Input/Output", 6 DQc (io) "Synchronous Data Input/Output", 7 DQc (io) "Synchronous Data Input/Output", 8 DQc (io) "Synchronous Data Input/Output", 9 DQc (io) "Synchronous Data Input/Output", 12 DQc (io) "Synchronous Data Input/Output", 13 DQc (io) "Synchronous Data Input/Output", 18 DQd (io) "Synchronous Data Input/Output", 19 DQd (io) "Synchronous Data Input/Output", 22 DQd (io) "Synchronous Data Input/Output", 23 DQd (io) "Synchronous Data Input/Output", 24 DQd (io) "Synchronous Data Input/Output", 25 DQd (io) "Synchronous Data Input/Output", 28 DQd (io) "Synchronous Data Input/Output", 29 DQd (io) "Synchronous Data Input/Output", 30 DQPd (io) "Parity Data I/O", 31 MODE (in) "Burst Sequence Selection", 32 A (in) "Synchronous Address Input", 33 A (in) "Synchronous Address Input", 34 A (in) "Synchronous Address Input", 35 A (in) "Synchronous Address Input", 36 A1 (in) "Synchronous Burst Address Input.This pin must tied to the two LSBs of the address bus.", 37 A0 (in) "Synchronous Burst Address Input.This pin must tied to the two LSBs of the address bus.", 44 A (in) "Synchronous Address Input", 45 A (in) "Synchronous Address Input", 46 A (in) "Synchronous Address Input", 47 A (in) "Synchronous Address Input", 48 A (in) "Synchronous Address Input", 49 A (in) "Synchronous Address Input", 50 A (in) "Synchronous Address Input", 51 DQPa (io) "Parity Data I/O", 52 DQa (io) "Synchronous Data Input/Output", 53 DQa (io) "Synchronous Data Input/Output", 56 DQa (io) "Synchronous Data Input/Output", 57 DQa (io) "Synchronous Data Input/Output", 58 DQa (io) "Synchronous Data Input/Output", 59 DQa (io) "Synchronous Data Input/Output", 62 DQa (io) "Synchronous Data Input/Output", 63 DQa (io) "Synchronous Data Input/Output", 64 ZZ (in) "Snooze Enable", 68 DQb (io) "Synchronous Data Input/Output", 69 DQb (io) "Synchronous Data Input/Output", 72 DQb (io) "Synchronous Data Input/Output", 73 DQb (io) "Synchronous Data Input/Output", 74 DQb (io) "Synchronous Data Input/Output", 75 DQb (io) "Synchronous Data Input/Output", 78 DQb (io) "Synchronous Data Input/Output", 79 DQb (io) "Synchronous Data Input/Output", 80 DQPb (io) "Parity Data I/O", 81 A (in) "Synchronous Address Input", 82 A (in) "Synchronous Address Input", 85 ADV (in) "Synchronous Burst Address Advance", 86 ~{OE} (in) "Output Enable", 87 ~{CKE} (in) "Clock Enable", 88 ~{WE} (in) "Write Enable", 89 CLK (in) "Synchronous Clock", 92 ~{CE2} (in) "Synchronous Chip Enable", 93 ~{BWa} (in) "Synchronous Byte Write Enable", 94 ~{BWb} (in) "Synchronous Byte Write Enable", 95 ~{BWc} (in) "Synchronous Byte Write Enable", 96 ~{BWd} (in) "Synchronous Byte Write Enable", 97 CE2 (in) "Synchronous Chip Enable", 98 ~{CE} (in) "Synchronous Chip Enable", 99 A (in) "Synchronous Address Input", 100 A (in) "Synchronous Address Input"
part B pins: 4 VDDQ (power) "Isolated Output Buffer Supply: +3.3V/2.5V", 5 VSS (power) "Ground", 10 VSS (power) "Ground", 11 VDDQ (power) "Isolated Output Buffer Supply: +3.3V/2.5V", 15 VDD (power) "+3.3V/2.5V Power Supply", 17 VSS (power) "Ground", 20 VDDQ (power) "Isolated Output Buffer Supply: +3.3V/2.5V", 21 VSS (power) "Ground", 26 VSS (power) "Ground", 27 VDDQ (power) "Isolated Output Buffer Supply: +3.3V/2.5V", 40 VSS (power) "Ground", 41 VDD (power) "+3.3V/2.5V Power Supply", 54 VDDQ (power) "Isolated Output Buffer Supply: +3.3V/2.5V", 55 VSS (power) "Ground", 60 VSS (power) "Ground", 61 VDDQ (power) "Isolated Output Buffer Supply: +3.3V/2.5V", 65 VDD (power) "+3.3V/2.5V Power Supply", 67 VSS (power) "Ground", 70 VDDQ (power) "Isolated Output Buffer Supply: +3.3V/2.5V", 71 VSS (power) "Ground", 76 VSS (power) "Ground", 77 VDDQ (power) "Isolated Output Buffer Supply: +3.3V/2.5V", 90 VSS (power) "Ground", 91 VDD (power) "+3.3V/2.5V Power Supply"
part C pins: 14 NC "Not Connected", 16 NC "Not Connected", 38 NC "Not Connected", 39 NC "Not Connected", 42 NC "Not Connected", 43 NC "Not Connected", 66 NC "Not Connected", 83 NC "Not Connected", 84 NC "Not Connected"

## IS64NLF12836EC-250TQLA3-TR
designator U?
4 M Flow Through 'No Wait' State Bus Synchronous SRAM with ECC, 128 K x 36, -40 to 125 degC, 100-Pin QFP (TQFP-100), Pb-Free; Manufacturer: Integrated Silicon Solution Inc (ISSI); PartNumber: IS64NLF12836EC-250TQLA3-TR; Density: 4M; Packing: Tape & Reel; Vcc: 3.3 V; VccQ: 2.5 / 3.3 V; DatasheetVersion: Rev. A; PackageVersion: Rev. F, 09/2009; PackageReference: TQFP-100; PackageDescription: 100-Pin 20 x 14 mm LQFP, Pitch 0.65 mm; Organization: 128Kx36; RoHS: Pb-Free; Mounting Technology: Surface Mount; ComponentLink1Description: Manufacturer URL; ComponentLink1URL: http://www.issi.com/US/Index.shtml; ComponentLink2Description: Datasheet; ComponentLink2URL: http://www.issi.com/WW/pdf/61-64NLF_NVF12832EC-12836EC-25618EC.pdf; ComponentLink3Description: Package Specification; ComponentLink3URL: http://www.issi.com/WW/pdf/61VPS_LPS25636A_51218A.pdf
footprint ISSI-TQFP-100-20000X14000DE_N (QFP, 100-Leads, Body 20x14mm, Pitch 0.65mm, IPC Medium Density)
part A pins: 1 DQPc (io) "Parity Data I/O", 2 DQc (io) "Synchronous Data Input/Output", 3 DQc (io) "Synchronous Data Input/Output", 6 DQc (io) "Synchronous Data Input/Output", 7 DQc (io) "Synchronous Data Input/Output", 8 DQc (io) "Synchronous Data Input/Output", 9 DQc (io) "Synchronous Data Input/Output", 12 DQc (io) "Synchronous Data Input/Output", 13 DQc (io) "Synchronous Data Input/Output", 18 DQd (io) "Synchronous Data Input/Output", 19 DQd (io) "Synchronous Data Input/Output", 22 DQd (io) "Synchronous Data Input/Output", 23 DQd (io) "Synchronous Data Input/Output", 24 DQd (io) "Synchronous Data Input/Output", 25 DQd (io) "Synchronous Data Input/Output", 28 DQd (io) "Synchronous Data Input/Output", 29 DQd (io) "Synchronous Data Input/Output", 30 DQPd (io) "Parity Data I/O", 31 MODE (in) "Burst Sequence Selection", 32 A (in) "Synchronous Address Input", 33 A (in) "Synchronous Address Input", 34 A (in) "Synchronous Address Input", 35 A (in) "Synchronous Address Input", 36 A1 (in) "Synchronous Burst Address Input.This pin must tied to the two LSBs of the address bus.", 37 A0 (in) "Synchronous Burst Address Input.This pin must tied to the two LSBs of the address bus.", 44 A (in) "Synchronous Address Input", 45 A (in) "Synchronous Address Input", 46 A (in) "Synchronous Address Input", 47 A (in) "Synchronous Address Input", 48 A (in) "Synchronous Address Input", 49 A (in) "Synchronous Address Input", 50 A (in) "Synchronous Address Input", 51 DQPa (io) "Parity Data I/O", 52 DQa (io) "Synchronous Data Input/Output", 53 DQa (io) "Synchronous Data Input/Output", 56 DQa (io) "Synchronous Data Input/Output", 57 DQa (io) "Synchronous Data Input/Output", 58 DQa (io) "Synchronous Data Input/Output", 59 DQa (io) "Synchronous Data Input/Output", 62 DQa (io) "Synchronous Data Input/Output", 63 DQa (io) "Synchronous Data Input/Output", 64 ZZ (in) "Snooze Enable", 68 DQb (io) "Synchronous Data Input/Output", 69 DQb (io) "Synchronous Data Input/Output", 72 DQb (io) "Synchronous Data Input/Output", 73 DQb (io) "Synchronous Data Input/Output", 74 DQb (io) "Synchronous Data Input/Output", 75 DQb (io) "Synchronous Data Input/Output", 78 DQb (io) "Synchronous Data Input/Output", 79 DQb (io) "Synchronous Data Input/Output", 80 DQPb (io) "Parity Data I/O", 81 A (in) "Synchronous Address Input", 82 A (in) "Synchronous Address Input", 85 ADV (in) "Synchronous Burst Address Advance", 86 ~{OE} (in) "Output Enable", 87 ~{CKE} (in) "Clock Enable", 88 ~{WE} (in) "Write Enable", 89 CLK (in) "Synchronous Clock", 92 ~{CE2} (in) "Synchronous Chip Enable", 93 ~{BWa} (in) "Synchronous Byte Write Enable", 94 ~{BWb} (in) "Synchronous Byte Write Enable", 95 ~{BWc} (in) "Synchronous Byte Write Enable", 96 ~{BWd} (in) "Synchronous Byte Write Enable", 97 CE2 (in) "Synchronous Chip Enable", 98 ~{CE} (in) "Synchronous Chip Enable", 99 A (in) "Synchronous Address Input", 100 A (in) "Synchronous Address Input"
part B pins: 4 VDDQ (power) "Isolated Output Buffer Supply: +3.3V/2.5V", 5 VSS (power) "Ground", 10 VSS (power) "Ground", 11 VDDQ (power) "Isolated Output Buffer Supply: +3.3V/2.5V", 15 VDD (power) "+3.3V/2.5V Power Supply", 17 VSS (power) "Ground", 20 VDDQ (power) "Isolated Output Buffer Supply: +3.3V/2.5V", 21 VSS (power) "Ground", 26 VSS (power) "Ground", 27 VDDQ (power) "Isolated Output Buffer Supply: +3.3V/2.5V", 40 VSS (power) "Ground", 41 VDD (power) "+3.3V/2.5V Power Supply", 54 VDDQ (power) "Isolated Output Buffer Supply: +3.3V/2.5V", 55 VSS (power) "Ground", 60 VSS (power) "Ground", 61 VDDQ (power) "Isolated Output Buffer Supply: +3.3V/2.5V", 65 VDD (power) "+3.3V/2.5V Power Supply", 67 VSS (power) "Ground", 70 VDDQ (power) "Isolated Output Buffer Supply: +3.3V/2.5V", 71 VSS (power) "Ground", 76 VSS (power) "Ground", 77 VDDQ (power) "Isolated Output Buffer Supply: +3.3V/2.5V", 90 VSS (power) "Ground", 91 VDD (power) "+3.3V/2.5V Power Supply"
part C pins: 14 NC "Not Connected", 16 NC "Not Connected", 38 NC "Not Connected", 39 NC "Not Connected", 42 NC "Not Connected", 43 NC "Not Connected", 66 NC "Not Connected", 83 NC "Not Connected", 84 NC "Not Connected"